# Altium schematic symbol library AD7623.SchLib: 1 symbol
Pins are listed as number, name and electrical type; pins without a type are passive.

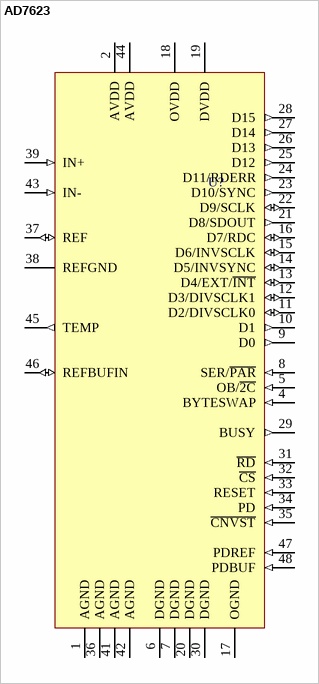
[diagram p0: symbol AD7623]

## AD7623
designator U?
pins: 1 AGND (power), 2 AVDD (power), 4 BYTESWAP (in), 5 OB/~{2C} (in), 6 DGND (power), 7 DGND (power), 8 SER/~{PAR} (in), 9 D0 (out), 10 D1 (out), 11 D2/DIVSCLK0 (io), 12 D3/DIVSCLK1 (io), 13 D4/EXT/~{INT} (io), 14 D5/INVSYNC (io), 15 D6/INVSCLK (io), 16 D7/RDC (io), 17 OGND (power), 18 OVDD (power), 19 DVDD (power), 20 DGND (power), 21 D8/SDOUT (out), 22 D9/SCLK (io), 23 D10/SYNC (out), 24 D11/RDERR (out), 25 D12 (out), 26 D13 (out), 27 D14 (out), 28 D15 (out), 29 BUSY (out), 30 DGND (power), 31 ~{RD} (in), 32 ~{CS} (in), 33 RESET (in), 34 PD (in), 35 ~{CNVST} (in), 36 AGND (power), 37 REF (io), 38 REFGND, 39 IN+ (in), 41 AGND (power), 42 AGND (power), 43 IN- (in), 44 AVDD (power), 45 TEMP (out), 46 REFBUFIN (io), 47 PDREF (in), 48 PDBUF (in)